# EAGLE library part NHD-0216K3Z-FL-GBW-V3 (library realdisplay)
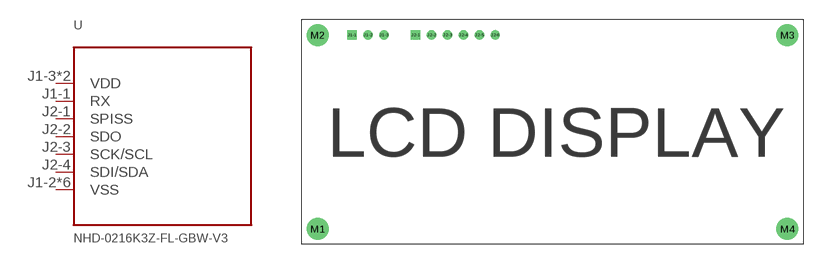
[diagram p0: symbol with the pads of NHD-0216K3Z-FL-GBW-V3; footprint NHD-0216K3Z-FL-GBW-V3]

Designator prefix -

## NHD-0216K3Z-FL-GBW-V3  [NHD-0216K3Z-FL-GBW-V3]
J1-1  RX
J1-2  VSS
J1-3  VDD
J2-1  SPISS
J2-2  SDO
J2-3  SCK/SCL
J2-4  SDI/SDA
J2-5  VSS
J2-6  VDD
M1  VSS
M2  VSS
M3  VSS
M4  VSS

## Footprint NHD-0216K3Z-FL-GBW-V3 (pad centres in mm)
drill 1 square: J1-1 8,33.5; J2-1 18.16,33.5
drill 1: J1-2 10.54,33.5; J1-3 13.08,33.5; J2-2 20.7,33.5; J2-3 23.24,33.5; J2-4 25.78,33.5; J2-5 28.32,33.5; J2-6 30.86,33.5
drill 2.5: M1 2.5,2.5; M2 2.5,33.5; M3 77.5,33.5; M4 77.5,2.5